# Altium integrated library WE-TPC SMD Shielded Tiny Power Inductor.IntLib: 253 symbols (part 2 of 3)
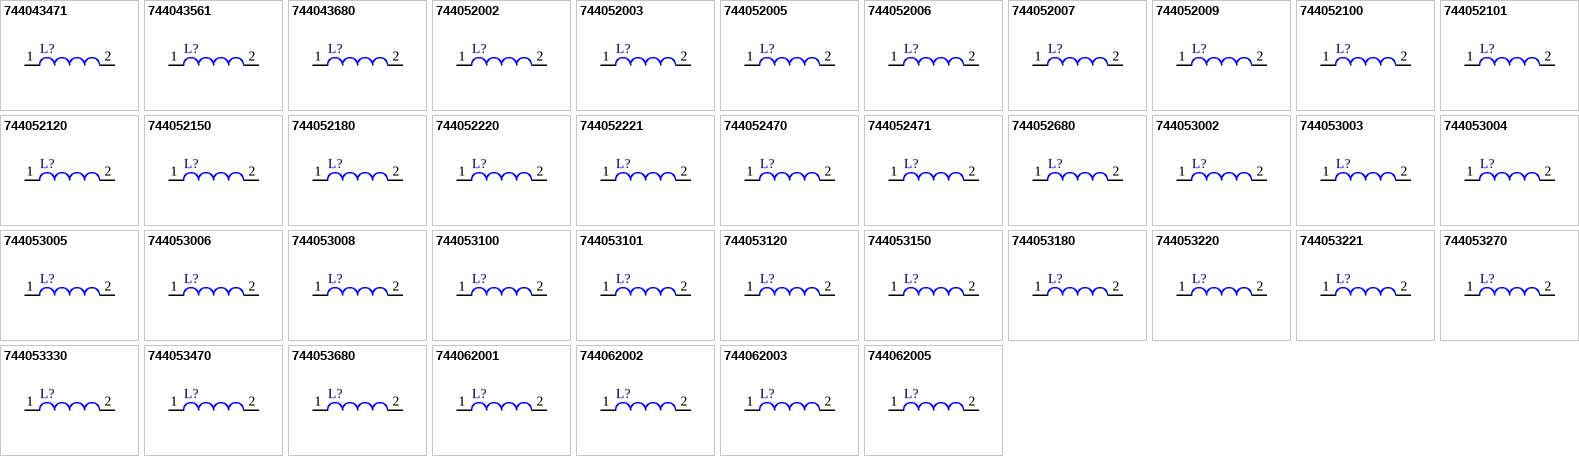
[diagram p8: symbols 744043471 to 744062005]

## 744053002
designator L?
SMD Shielded Tiny Power Inductor WE-TPC, L = 2.60 µH; PartNumber: 744053002; Inductance: 2.60 µH; DatasheetVersion: ver 6, Aug-2010; PackageReference: WE-TPC-5828-LH; PackageDescription: SMD Inductor, 2-Leads, Body 5.8 x 5.8 mm; ComponentLink1Description: Manufacturer URL; ComponentLink1URL: http://www.we-online.com; ComponentLink2Description: Datasheet; ComponentLink2URL: http://www.we-online.de/katalog/media/pdf/744053002.pdf
footprint WE-TPC-5828-LH (SMD Inductor, 2-Leads, Body 5.8x5.8x3.0 mm)
pins: 1, 2

## 744053003
designator L?
SMD Shielded Tiny Power Inductor WE-TPC, L = 3.00 µH; PartNumber: 744053003; Inductance: 3.00 µH; DatasheetVersion: ver 6, Aug-2010; PackageReference: WE-TPC-5828-LH; PackageDescription: SMD Inductor, 2-Leads, Body 5.8 x 5.8 mm; ComponentLink1Description: Manufacturer URL; ComponentLink1URL: http://www.we-online.com; ComponentLink2Description: Datasheet; ComponentLink2URL: http://www.we-online.de/katalog/media/pdf/744053003.pdf
footprint WE-TPC-5828-LH (SMD Inductor, 2-Leads, Body 5.8x5.8x3.0 mm)
pins: 1, 2

## 744053004
designator L?
SMD Shielded Tiny Power Inductor WE-TPC, L = 4.00 µH; PartNumber: 744053004; Inductance: 4.00 µH; DatasheetVersion: ver 6, Aug-2010; PackageReference: WE-TPC-5828-LH; PackageDescription: SMD Inductor, 2-Leads, Body 5.8 x 5.8 mm; ComponentLink1Description: Manufacturer URL; ComponentLink1URL: http://www.we-online.com; ComponentLink2Description: Datasheet; ComponentLink2URL: http://www.we-online.de/katalog/media/pdf/744053004.pdf
footprint WE-TPC-5828-LH (SMD Inductor, 2-Leads, Body 5.8x5.8x3.0 mm)
pins: 1, 2

## 744053005
designator L?
SMD Shielded Tiny Power Inductor WE-TPC, L = 5.30 µH; PartNumber: 744053005; Inductance: 5.30 µH; DatasheetVersion: ver 6, Aug-2010; PackageReference: WE-TPC-5828-LH; PackageDescription: SMD Inductor, 2-Leads, Body 5.8 x 5.8 mm; ComponentLink1Description: Manufacturer URL; ComponentLink1URL: http://www.we-online.com; ComponentLink2Description: Datasheet; ComponentLink2URL: http://www.we-online.de/katalog/media/pdf/744053005.pdf
footprint WE-TPC-5828-LH (SMD Inductor, 2-Leads, Body 5.8x5.8x3.0 mm)
pins: 1, 2

## 744053006
designator L?
SMD Shielded Tiny Power Inductor WE-TPC, L = 6.20 µH; PartNumber: 744053006; Inductance: 6.20 µH; DatasheetVersion: ver 6, Aug-2010; PackageReference: WE-TPC-5828-LH; PackageDescription: SMD Inductor, 2-Leads, Body 5.8 x 5.8 mm; ComponentLink1Description: Manufacturer URL; ComponentLink1URL: http://www.we-online.com; ComponentLink2Description: Datasheet; ComponentLink2URL: http://www.we-online.de/katalog/media/pdf/744053006.pdf
footprint WE-TPC-5828-LH (SMD Inductor, 2-Leads, Body 5.8x5.8x3.0 mm)
pins: 1, 2

## 744053008
designator L?
SMD Shielded Tiny Power Inductor WE-TPC, L = 8.20 µH; PartNumber: 744053008; Inductance: 8.20 µH; DatasheetVersion: ver 6, Aug-2010; PackageReference: WE-TPC-5828-LH; PackageDescription: SMD Inductor, 2-Leads, Body 5.8 x 5.8 mm; ComponentLink1Description: Manufacturer URL; ComponentLink1URL: http://www.we-online.com; ComponentLink2Description: Datasheet; ComponentLink2URL: http://www.we-online.de/katalog/media/pdf/744053008.pdf
footprint WE-TPC-5828-LH (SMD Inductor, 2-Leads, Body 5.8x5.8x3.0 mm)
pins: 1, 2

## 744053100
designator L?
SMD Shielded Tiny Power Inductor WE-TPC, L = 10.0 µH; PartNumber: 744053100; Inductance: 10.0 µH; DatasheetVersion: ver 6, Aug-2010; PackageReference: WE-TPC-5828-LH; PackageDescription: SMD Inductor, 2-Leads, Body 5.8 x 5.8 mm; ComponentLink1Description: Manufacturer URL; ComponentLink1URL: http://www.we-online.com; ComponentLink2Description: Datasheet; ComponentLink2URL: http://www.we-online.de/katalog/media/pdf/744053100.pdf
footprint WE-TPC-5828-LH (SMD Inductor, 2-Leads, Body 5.8x5.8x3.0 mm)
pins: 1, 2

## 744053101
designator L?
SMD Shielded Tiny Power Inductor WE-TPC, L = 100 µH; PartNumber: 744053101; Inductance: 100 µH; DatasheetVersion: ver 6, Aug-2010; PackageReference: WE-TPC-5828-LH; PackageDescription: SMD Inductor, 2-Leads, Body 5.8 x 5.8 mm; ComponentLink1Description: Manufacturer URL; ComponentLink1URL: http://www.we-online.com; ComponentLink2Description: Datasheet; ComponentLink2URL: http://www.we-online.de/katalog/media/pdf/744053101.pdf
footprint WE-TPC-5828-LH (SMD Inductor, 2-Leads, Body 5.8x5.8x3.0 mm)
pins: 1, 2

## 744053120
designator L?
SMD Shielded Tiny Power Inductor WE-TPC, L = 12.0 µH; PartNumber: 744053120; Inductance: 12.0 µH; DatasheetVersion: ver 6, Aug-2010; PackageReference: WE-TPC-5828-LH; PackageDescription: SMD Inductor, 2-Leads, Body 5.8 x 5.8 mm; ComponentLink1Description: Manufacturer URL; ComponentLink1URL: http://www.we-online.com; ComponentLink2Description: Datasheet; ComponentLink2URL: http://www.we-online.de/katalog/media/pdf/744053120.pdf
footprint WE-TPC-5828-LH (SMD Inductor, 2-Leads, Body 5.8x5.8x3.0 mm)
pins: 1, 2

## 744053150
designator L?
SMD Shielded Tiny Power Inductor WE-TPC, L = 15.0 µH; PartNumber: 744053150; Inductance: 12.0 µH; DatasheetVersion: ver 6, Aug-2010; PackageReference: WE-TPC-5828-LH; PackageDescription: SMD Inductor, 2-Leads, Body 5.8 x 5.8 mm; ComponentLink1Description: Manufacturer URL; ComponentLink1URL: http://www.we-online.com; ComponentLink2Description: Datasheet; ComponentLink2URL: http://www.we-online.de/katalog/media/pdf/744053150.pdf
footprint WE-TPC-5828-LH (SMD Inductor, 2-Leads, Body 5.8x5.8x3.0 mm)
pins: 1, 2

## 744053180
designator L?
SMD Shielded Tiny Power Inductor WE-TPC, L = 18.0 µH; PartNumber: 744053180; Inductance: 18.0 µH; DatasheetVersion: ver 6, Aug-2010; PackageReference: WE-TPC-5828-LH; PackageDescription: SMD Inductor, 2-Leads, Body 5.8 x 5.8 mm; ComponentLink1Description: Manufacturer URL; ComponentLink1URL: http://www.we-online.com; ComponentLink2Description: Datasheet; ComponentLink2URL: http://www.we-online.de/katalog/media/pdf/744053180.pdf
footprint WE-TPC-5828-LH (SMD Inductor, 2-Leads, Body 5.8x5.8x3.0 mm)
pins: 1, 2

## 744053220
designator L?
SMD Shielded Tiny Power Inductor WE-TPC, L = 22.0 µH; PartNumber: 744053220; Inductance: 22.0 µH; DatasheetVersion: ver 6, Aug-2010; PackageReference: WE-TPC-5828-LH; PackageDescription: SMD Inductor, 2-Leads, Body 5.8 x 5.8 mm; ComponentLink1Description: Manufacturer URL; ComponentLink1URL: http://www.we-online.com; ComponentLink2Description: Datasheet; ComponentLink2URL: http://www.we-online.de/katalog/media/pdf/744053220.pdf
footprint WE-TPC-5828-LH (SMD Inductor, 2-Leads, Body 5.8x5.8x3.0 mm)
pins: 1, 2

## 744053221
designator L?
SMD Shielded Tiny Power Inductor WE-TPC, L = 220 µH; PartNumber: 744053221; Inductance: 220 µH; DatasheetVersion: ver 8, Jan-2010; PackageReference: WE-TPC-5828-LH; PackageDescription: SMD Inductor, 2-Leads, Body 5.8 x 5.8 mm; ComponentLink1Description: Manufacturer URL; ComponentLink1URL: http://www.we-online.com; ComponentLink2Description: Datasheet; ComponentLink2URL: http://www.we-online.de/katalog/media/pdf/744053221.pdf
footprint WE-TPC-5828-LH (SMD Inductor, 2-Leads, Body 5.8x5.8x3.0 mm)
pins: 1, 2

## 744053270
designator L?
SMD Shielded Tiny Power Inductor WE-TPC, L = 27.0 µH; PartNumber: 744053270; Inductance: 27.0 µH; DatasheetVersion: ver 6, Aug-2010; PackageReference: WE-TPC-5828-LH; PackageDescription: SMD Inductor, 2-Leads, Body 5.8 x 5.8 mm; ComponentLink1Description: Manufacturer URL; ComponentLink1URL: http://www.we-online.com; ComponentLink2Description: Datasheet; ComponentLink2URL: http://www.we-online.de/katalog/media/pdf/744053270.pdf
footprint WE-TPC-5828-LH (SMD Inductor, 2-Leads, Body 5.8x5.8x3.0 mm)
pins: 1, 2

## 744053330
designator L?
SMD Shielded Tiny Power Inductor WE-TPC, L = 33.0 µH; PartNumber: 744053330; Inductance: 33.0 µH; DatasheetVersion: ver 6, Aug-2010; PackageReference: WE-TPC-5828-LH; PackageDescription: SMD Inductor, 2-Leads, Body 5.8 x 5.8 mm; ComponentLink1Description: Manufacturer URL; ComponentLink1URL: http://www.we-online.com; ComponentLink2Description: Datasheet; ComponentLink2URL: http://www.we-online.de/katalog/media/pdf/744053330.pdf
footprint WE-TPC-5828-LH (SMD Inductor, 2-Leads, Body 5.8x5.8x3.0 mm)
pins: 1, 2

## 744053470
designator L?
SMD Shielded Tiny Power Inductor WE-TPC, L = 47.0 µH; PartNumber: 744053470; Inductance: 47.0 µH; DatasheetVersion: ver 6, Aug-2010; PackageReference: WE-TPC-5828-LH; PackageDescription: SMD Inductor, 2-Leads, Body 5.8 x 5.8 mm; ComponentLink1Description: Manufacturer URL; ComponentLink1URL: http://www.we-online.com; ComponentLink2Description: Datasheet; ComponentLink2URL: http://www.we-online.de/katalog/media/pdf/744053470.pdf
footprint WE-TPC-5828-LH (SMD Inductor, 2-Leads, Body 5.8x5.8x3.0 mm)
pins: 1, 2

## 744053680
designator L?
SMD Shielded Tiny Power Inductor WE-TPC, L = 68.0 µH; PartNumber: 744053680; Inductance: 68.0 µH; DatasheetVersion: ver 6, Aug-2010; PackageReference: WE-TPC-5828-LH; PackageDescription: SMD Inductor, 2-Leads, Body 5.8 x 5.8 mm; ComponentLink1Description: Manufacturer URL; ComponentLink1URL: http://www.we-online.com; ComponentLink2Description: Datasheet; ComponentLink2URL: http://www.we-online.de/katalog/media/pdf/744053680.pdf
footprint WE-TPC-5828-LH (SMD Inductor, 2-Leads, Body 5.8x5.8x3.0 mm)
pins: 1, 2

## 744062001
designator L?
SMD Shielded Tiny Power Inductor WE-TPC, L = 1.00 µH; PartNumber: 744062001; Inductance: 1.00 µH; DatasheetVersion: ver 5, Jan-2009; PackageReference: WE-TPC-6823-X; PackageDescription: SMD Inductor, 2-Leads, Body 6.8 x 6.8 mm; ComponentLink1Description: Manufacturer URL; ComponentLink1URL: http://www.we-online.com; ComponentLink2Description: Datasheet; ComponentLink2URL: http://www.we-online.de/katalog/media/pdf/744062001.pdf
footprint WE-TPC-6823-X (SMD Inductor, 2-Leads, Body 6.8x6.8x2.5 mm)
pins: 1, 2

## 744062002
designator L?
SMD Shielded Tiny Power Inductor WE-TPC, L = 2.20 µH; PartNumber: 744062002; Inductance: 2.20 µH; DatasheetVersion: ver 5, Jan-2009; PackageReference: WE-TPC-6823-X; PackageDescription: SMD Inductor, 2-Leads, Body 6.8 x 6.8 mm; ComponentLink1Description: Manufacturer URL; ComponentLink1URL: http://www.we-online.com; ComponentLink2Description: Datasheet; ComponentLink2URL: http://www.we-online.de/katalog/media/pdf/744062002.pdf
footprint WE-TPC-6823-X (SMD Inductor, 2-Leads, Body 6.8x6.8x2.5 mm)
pins: 1, 2

## 744062003
designator L?
SMD Shielded Tiny Power Inductor WE-TPC, L = 3.30 µH; PartNumber: 744062003; Inductance: 3.30 µH; DatasheetVersion: ver 5, Jan-2009; PackageReference: WE-TPC-6823-X; PackageDescription: SMD Inductor, 2-Leads, Body 6.8 x 6.8 mm; ComponentLink1Description: Manufacturer URL; ComponentLink1URL: http://www.we-online.com; ComponentLink2Description: Datasheet; ComponentLink2URL: http://www.we-online.de/katalog/media/pdf/744062003.pdf
footprint WE-TPC-6823-X (SMD Inductor, 2-Leads, Body 6.8x6.8x2.5 mm)
pins: 1, 2

## 744062005
designator L?
SMD Shielded Tiny Power Inductor WE-TPC, L = 5.00 µH; PartNumber: 744062005; Inductance: 5.00 µH; DatasheetVersion: ver 5, Jan-2009; PackageReference: WE-TPC-6823-X; PackageDescription: SMD Inductor, 2-Leads, Body 6.8 x 6.8 mm; ComponentLink1Description: Manufacturer URL; ComponentLink1URL: http://www.we-online.com; ComponentLink2Description: Datasheet; ComponentLink2URL: http://www.we-online.de/katalog/media/pdf/744062005.pdf
footprint WE-TPC-6823-X (SMD Inductor, 2-Leads, Body 6.8x6.8x2.5 mm)
pins: 1, 2

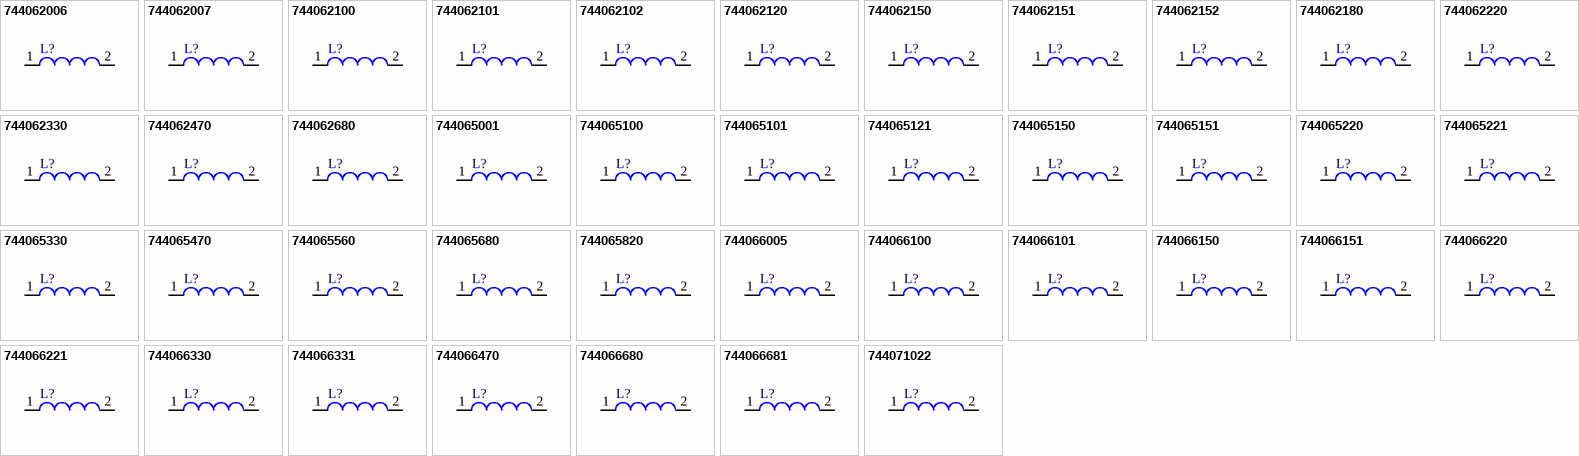
[diagram p3: symbols 744062006 to 744071022]

## 744062006
designator L?
SMD Shielded Tiny Power Inductor WE-TPC, L = 6.20 µH; PartNumber: 744062006; Inductance: 6.20 µH; DatasheetVersion: ver 5, Jan-2009; PackageReference: WE-TPC-6823-X; PackageDescription: SMD Inductor, 2-Leads, Body 6.8 x 6.8 mm; ComponentLink1Description: Manufacturer URL; ComponentLink1URL: http://www.we-online.com; ComponentLink2Description: Datasheet; ComponentLink2URL: http://www.we-online.de/katalog/media/pdf/744062006.pdf
footprint WE-TPC-6823-X (SMD Inductor, 2-Leads, Body 6.8x6.8x2.5 mm)
pins: 1, 2

## 744062007
designator L?
SMD Shielded Tiny Power Inductor WE-TPC, L = 7.50 µH; PartNumber: 744062007; Inductance: 7.50 µH; DatasheetVersion: ver 5, Jan-2009; PackageReference: WE-TPC-6823-X; PackageDescription: SMD Inductor, 2-Leads, Body 6.8 x 6.8 mm; ComponentLink1Description: Manufacturer URL; ComponentLink1URL: http://www.we-online.com; ComponentLink2Description: Datasheet; ComponentLink2URL: http://www.we-online.de/katalog/media/pdf/744062007.pdf
footprint WE-TPC-6823-X (SMD Inductor, 2-Leads, Body 6.8x6.8x2.5 mm)
pins: 1, 2

## 744062100
designator L?
SMD Shielded Tiny Power Inductor WE-TPC, L = 10.0 µH; PartNumber: 744062100; Inductance: 10.0 µH; DatasheetVersion: ver 5, Jan-2009; PackageReference: WE-TPC-6823-X; PackageDescription: SMD Inductor, 2-Leads, Body 6.8 x 6.8 mm; ComponentLink1Description: Manufacturer URL; ComponentLink1URL: http://www.we-online.com; ComponentLink2Description: Datasheet; ComponentLink2URL: http://www.we-online.de/katalog/media/pdf/744062100.pdf
footprint WE-TPC-6823-X (SMD Inductor, 2-Leads, Body 6.8x6.8x2.5 mm)
pins: 1, 2

## 744062101
designator L?
SMD Shielded Tiny Power Inductor WE-TPC, L = 100 µH; PartNumber: 744062101; Inductance: 100 µH; DatasheetVersion: ver 4, Apr-2008; PackageReference: WE-TPC-6823-X; PackageDescription: SMD Inductor, 2-Leads, Body 6.8 x 6.8 mm; ComponentLink1Description: Manufacturer URL; ComponentLink1URL: http://www.we-online.com; ComponentLink2Description: Datasheet; ComponentLink2URL: http://www.we-online.de/katalog/media/pdf/744062101.pdf
footprint WE-TPC-6823-X (SMD Inductor, 2-Leads, Body 6.8x6.8x2.5 mm)
pins: 1, 2

## 744062102
designator L?
SMD Shielded Tiny Power Inductor WE-TPC, L = 1000 µH; PartNumber: 744062102; Inductance: 1000 µH; DatasheetVersion: ver 4, Apr-2008; PackageReference: WE-TPC-6823-X; PackageDescription: SMD Inductor, 2-Leads, Body 6.8 x 6.8 mm; ComponentLink1Description: Manufacturer URL; ComponentLink1URL: http://www.we-online.com; ComponentLink2Description: Datasheet; ComponentLink2URL: http://www.we-online.de/katalog/media/pdf/744062102.pdf
footprint WE-TPC-6823-X (SMD Inductor, 2-Leads, Body 6.8x6.8x2.5 mm)
pins: 1, 2

## 744062120
designator L?
SMD Shielded Tiny Power Inductor WE-TPC, L = 12.0 µH; PartNumber: 744062120; Inductance: 12.0 µH; DatasheetVersion: ver 5, Jan-2009; PackageReference: WE-TPC-6823-X; PackageDescription: SMD Inductor, 2-Leads, Body 6.8 x 6.8 mm; ComponentLink1Description: Manufacturer URL; ComponentLink1URL: http://www.we-online.com; ComponentLink2Description: Datasheet; ComponentLink2URL: http://www.we-online.de/katalog/media/pdf/744062120.pdf
footprint WE-TPC-6823-X (SMD Inductor, 2-Leads, Body 6.8x6.8x2.5 mm)
pins: 1, 2

## 744062150
designator L?
SMD Shielded Tiny Power Inductor WE-TPC, L = 15.0 µH; PartNumber: 744062150; Inductance: 15.0 µH; DatasheetVersion: ver 5, Jan-2009; PackageReference: WE-TPC-6823-X; PackageDescription: SMD Inductor, 2-Leads, Body 6.8 x 6.8 mm; ComponentLink1Description: Manufacturer URL; ComponentLink1URL: http://www.we-online.com; ComponentLink2Description: Datasheet; ComponentLink2URL: http://www.we-online.de/katalog/media/pdf/744062150.pdf
footprint WE-TPC-6823-X (SMD Inductor, 2-Leads, Body 6.8x6.8x2.5 mm)
pins: 1, 2

## 744062151
designator L?
SMD Shielded Tiny Power Inductor WE-TPC, L = 150 µH; PartNumber: 744062151; Inductance: 150 µH; DatasheetVersion: ver 5, Jan-2009; PackageReference: WE-TPC-6823-X; PackageDescription: SMD Inductor, 2-Leads, Body 6.8 x 6.8 mm; ComponentLink1Description: Manufacturer URL; ComponentLink1URL: http://www.we-online.com; ComponentLink2Description: Datasheet; ComponentLink2URL: http://www.we-online.de/katalog/media/pdf/744062151.pdf
footprint WE-TPC-6823-X (SMD Inductor, 2-Leads, Body 6.8x6.8x2.5 mm)
pins: 1, 2

## 744062152
designator L?
SMD Shielded Tiny Power Inductor WE-TPC, L = 1500 µH; PartNumber: 744062152; Inductance: 1500 µH; DatasheetVersion: ver 5, Jan-2009; PackageReference: WE-TPC-6823-X; PackageDescription: SMD Inductor, 2-Leads, Body 6.8 x 6.8 mm; ComponentLink1Description: Manufacturer URL; ComponentLink1URL: http://www.we-online.com; ComponentLink2Description: Datasheet; ComponentLink2URL: http://www.we-online.de/katalog/media/pdf/744062152.pdf
footprint WE-TPC-6823-X (SMD Inductor, 2-Leads, Body 6.8x6.8x2.5 mm)
pins: 1, 2

## 744062180
designator L?
SMD Shielded Tiny Power Inductor WE-TPC, L = 18.0 µH; PartNumber: 744062180; Inductance: 18.0 µH; DatasheetVersion: ver 5, Jan-2009; PackageReference: WE-TPC-6823-X; PackageDescription: SMD Inductor, 2-Leads, Body 6.8 x 6.8 mm; ComponentLink1Description: Manufacturer URL; ComponentLink1URL: http://www.we-online.com; ComponentLink2Description: Datasheet; ComponentLink2URL: http://www.we-online.de/katalog/media/pdf/744062180.pdf
footprint WE-TPC-6823-X (SMD Inductor, 2-Leads, Body 6.8x6.8x2.5 mm)
pins: 1, 2

## 744062220
designator L?
SMD Shielded Tiny Power Inductor WE-TPC, L = 22.0 µH; PartNumber: 744062220; Inductance: 22.0 µH; DatasheetVersion: ver 5, Jan-2009; PackageReference: WE-TPC-6823-X; PackageDescription: SMD Inductor, 2-Leads, Body 6.8 x 6.8 mm; ComponentLink1Description: Manufacturer URL; ComponentLink1URL: http://www.we-online.com; ComponentLink2Description: Datasheet; ComponentLink2URL: http://www.we-online.de/katalog/media/pdf/744062220.pdf
footprint WE-TPC-6823-X (SMD Inductor, 2-Leads, Body 6.8x6.8x2.5 mm)
pins: 1, 2

## 744062330
designator L?
SMD Shielded Tiny Power Inductor WE-TPC, L = 33.0 µH; PartNumber: 744062330; Inductance: 33.0 µH; DatasheetVersion: ver 5, Jan-2009; PackageReference: WE-TPC-6823-X; PackageDescription: SMD Inductor, 2-Leads, Body 6.8 x 6.8 mm; ComponentLink1Description: Manufacturer URL; ComponentLink1URL: http://www.we-online.com; ComponentLink2Description: Datasheet; ComponentLink2URL: http://www.we-online.de/katalog/media/pdf/744062330.pdf
footprint WE-TPC-6823-X (SMD Inductor, 2-Leads, Body 6.8x6.8x2.5 mm)
pins: 1, 2

## 744062470
designator L?
SMD Shielded Tiny Power Inductor WE-TPC, L = 47.0 µH; PartNumber: 744062470; Inductance: 47.0 µH; DatasheetVersion: ver 5, Jan-2009; PackageReference: WE-TPC-6823-X; PackageDescription: SMD Inductor, 2-Leads, Body 6.8 x 6.8 mm; ComponentLink1Description: Manufacturer URL; ComponentLink1URL: http://www.we-online.com; ComponentLink2Description: Datasheet; ComponentLink2URL: http://www.we-online.de/katalog/media/pdf/744062470.pdf
footprint WE-TPC-6823-X (SMD Inductor, 2-Leads, Body 6.8x6.8x2.5 mm)
pins: 1, 2

## 744062680
designator L?
SMD Shielded Tiny Power Inductor WE-TPC, L = 68.0 µH; PartNumber: 744062680; Inductance: 68.0 µH; DatasheetVersion: ver 5, Jan-2009; PackageReference: WE-TPC-6823-X; PackageDescription: SMD Inductor, 2-Leads, Body 6.8 x 6.8 mm; ComponentLink1Description: Manufacturer URL; ComponentLink1URL: http://www.we-online.com; ComponentLink2Description: Datasheet; ComponentLink2URL: http://www.we-online.de/katalog/media/pdf/744062680.pdf
footprint WE-TPC-6823-X (SMD Inductor, 2-Leads, Body 6.8x6.8x2.5 mm)
pins: 1, 2

## 744065001
designator L?
SMD Shielded Tiny Power Inductor WE-TPC, L = 1.00 µH; PartNumber: 744065001; Inductance: 1.00 µH; DatasheetVersion: ver 3, Nov-2008; PackageReference: WE-TPC-1028-XL; PackageDescription: SMD Inductor, 2-Leads, Body 10.0 x 10.0 mm; ComponentLink1Description: Manufacturer URL; ComponentLink1URL: http://www.we-online.com; ComponentLink2Description: Datasheet; ComponentLink2URL: http://www.we-online.de/katalog/media/pdf/744065001.pdf
footprint WE-TPC-1028-XL (SMD Inductor, 2-Leads, Body 10.0x10.0x3.1 mm)
pins: 1, 2

## 744065100
designator L?
SMD Shielded Tiny Power Inductor WE-TPC, L = 10.0 µH; PartNumber: 744065100; Inductance: 10.0 µH; DatasheetVersion: ver 3, Nov-2008; PackageReference: WE-TPC-1028-XL; PackageDescription: SMD Inductor, 2-Leads, Body 10.0 x 10.0 mm; ComponentLink1Description: Manufacturer URL; ComponentLink1URL: http://www.we-online.com; ComponentLink2Description: Datasheet; ComponentLink2URL: http://www.we-online.de/katalog/media/pdf/744065100.pdf
footprint WE-TPC-1028-XL (SMD Inductor, 2-Leads, Body 10.0x10.0x3.1 mm)
pins: 1, 2

## 744065101
designator L?
SMD Shielded Tiny Power Inductor WE-TPC, L = 100 µH; PartNumber: 744065101; Inductance: 100 µH; DatasheetVersion: ver 3, Nov-2008; PackageReference: WE-TPC-1028-XL; PackageDescription: SMD Inductor, 2-Leads, Body 10.0 x 10.0 mm; ComponentLink1Description: Manufacturer URL; ComponentLink1URL: http://www.we-online.com; ComponentLink2Description: Datasheet; ComponentLink2URL: http://www.we-online.de/katalog/media/pdf/744065101.pdf
footprint WE-TPC-1028-XL (SMD Inductor, 2-Leads, Body 10.0x10.0x3.1 mm)
pins: 1, 2

## 744065121
designator L?
SMD Shielded Tiny Power Inductor WE-TPC, L = 120 µH; PartNumber: 744065121; Inductance: 120 µH; DatasheetVersion: ver 3, Nov-2008; PackageReference: WE-TPC-1028-XL; PackageDescription: SMD Inductor, 2-Leads, Body 10.0 x 10.0 mm; ComponentLink1Description: Manufacturer URL; ComponentLink1URL: http://www.we-online.com; ComponentLink2Description: Datasheet; ComponentLink2URL: http://www.we-online.de/katalog/media/pdf/744065121.pdf
footprint WE-TPC-1028-XL (SMD Inductor, 2-Leads, Body 10.0x10.0x3.1 mm)
pins: 1, 2

## 744065150
designator L?
SMD Shielded Tiny Power Inductor WE-TPC, L = 15.0 µH; PartNumber: 744065150; Inductance: 15.0 µH; DatasheetVersion: ver 3, Nov-2008; PackageReference: WE-TPC-1028-XL; PackageDescription: SMD Inductor, 2-Leads, Body 10.0 x 10.0 mm; ComponentLink1Description: Manufacturer URL; ComponentLink1URL: http://www.we-online.com; ComponentLink2Description: Datasheet; ComponentLink2URL: http://www.we-online.de/katalog/media/pdf/744065150.pdf
footprint WE-TPC-1028-XL (SMD Inductor, 2-Leads, Body 10.0x10.0x3.1 mm)
pins: 1, 2

## 744065151
designator L?
SMD Shielded Tiny Power Inductor WE-TPC, L = 150 µH; PartNumber: 744065151; Inductance: 150 µH; DatasheetVersion: ver 3, Nov-2008; PackageReference: WE-TPC-1028-XL; PackageDescription: SMD Inductor, 2-Leads, Body 10.0 x 10.0 mm; ComponentLink1Description: Manufacturer URL; ComponentLink1URL: http://www.we-online.com; ComponentLink2Description: Datasheet; ComponentLink2URL: http://www.we-online.de/katalog/media/pdf/744065151.pdf
footprint WE-TPC-1028-XL (SMD Inductor, 2-Leads, Body 10.0x10.0x3.1 mm)
pins: 1, 2

## 744065220
designator L?
SMD Shielded Tiny Power Inductor WE-TPC, L = 22.0 µH; PartNumber: 744065220; Inductance: 22.0 µH; DatasheetVersion: ver 3, Nov-2008; PackageReference: WE-TPC-1028-XL; PackageDescription: SMD Inductor, 2-Leads, Body 10.0 x 10.0 mm; ComponentLink1Description: Manufacturer URL; ComponentLink1URL: http://www.we-online.com; ComponentLink2Description: Datasheet; ComponentLink2URL: http://www.we-online.de/katalog/media/pdf/744065220.pdf
footprint WE-TPC-1028-XL (SMD Inductor, 2-Leads, Body 10.0x10.0x3.1 mm)
pins: 1, 2

## 744065221
designator L?
SMD Shielded Tiny Power Inductor WE-TPC, L = 220 µH; PartNumber: 744065221; Inductance: 220 µH; DatasheetVersion: ver 3, Nov-2008; PackageReference: WE-TPC-1028-XL; PackageDescription: SMD Inductor, 2-Leads, Body 10.0 x 10.0 mm; ComponentLink1Description: Manufacturer URL; ComponentLink1URL: http://www.we-online.com; ComponentLink2Description: Datasheet; ComponentLink2URL: http://www.we-online.de/katalog/media/pdf/744065221.pdf
footprint WE-TPC-1028-XL (SMD Inductor, 2-Leads, Body 10.0x10.0x3.1 mm)
pins: 1, 2

## 744065330
designator L?
SMD Shielded Tiny Power Inductor WE-TPC, L = 33.0 µH; PartNumber: 744065330; Inductance: 33.0 µH; DatasheetVersion: ver 3, Nov-2008; PackageReference: WE-TPC-1028-XL; PackageDescription: SMD Inductor, 2-Leads, Body 10.0 x 10.0 mm; ComponentLink1Description: Manufacturer URL; ComponentLink1URL: http://www.we-online.com; ComponentLink2Description: Datasheet; ComponentLink2URL: http://www.we-online.de/katalog/media/pdf/744065330.pdf
footprint WE-TPC-1028-XL (SMD Inductor, 2-Leads, Body 10.0x10.0x3.1 mm)
pins: 1, 2

## 744065470
designator L?
SMD Shielded Tiny Power Inductor WE-TPC, L = 47.0 µH; PartNumber: 744065470; Inductance: 47.0 µH; DatasheetVersion: ver 3, Nov-2008; PackageReference: WE-TPC-1028-XL; PackageDescription: SMD Inductor, 2-Leads, Body 10.0 x 10.0 mm; ComponentLink1Description: Manufacturer URL; ComponentLink1URL: http://www.we-online.com; ComponentLink2Description: Datasheet; ComponentLink2URL: http://www.we-online.de/katalog/media/pdf/744065470.pdf
footprint WE-TPC-1028-XL (SMD Inductor, 2-Leads, Body 10.0x10.0x3.1 mm)
pins: 1, 2

## 744065560
designator L?
SMD Shielded Tiny Power Inductor WE-TPC, L = 56.0 µH; PartNumber: 744065560; Inductance: 56.0 µH; DatasheetVersion: ver 3, Nov-2008; PackageReference: WE-TPC-1028-XL; PackageDescription: SMD Inductor, 2-Leads, Body 10.0 x 10.0 mm; ComponentLink1Description: Manufacturer URL; ComponentLink1URL: http://www.we-online.com; ComponentLink2Description: Datasheet; ComponentLink2URL: http://www.we-online.de/katalog/media/pdf/744065560.pdf
footprint WE-TPC-1028-XL (SMD Inductor, 2-Leads, Body 10.0x10.0x3.1 mm)
pins: 1, 2

## 744065680
designator L?
SMD Shielded Tiny Power Inductor WE-TPC, L = 68.0 µH; PartNumber: 744065680; Inductance: 68.0 µH; DatasheetVersion: ver 3, Nov-2008; PackageReference: WE-TPC-1028-XL; PackageDescription: SMD Inductor, 2-Leads, Body 10.0 x 10.0 mm; ComponentLink1Description: Manufacturer URL; ComponentLink1URL: http://www.we-online.com; ComponentLink2Description: Datasheet; ComponentLink2URL: http://www.we-online.de/katalog/media/pdf/744065680.pdf
footprint WE-TPC-1028-XL (SMD Inductor, 2-Leads, Body 10.0x10.0x3.1 mm)
pins: 1, 2

## 744065820
designator L?
SMD Shielded Tiny Power Inductor WE-TPC, L = 82.0 µH; PartNumber: 744065820; Inductance: 82.0 µH; DatasheetVersion: ver 3, Nov-2008; PackageReference: WE-TPC-1028-XL; PackageDescription: SMD Inductor, 2-Leads, Body 10.0 x 10.0 mm; ComponentLink1Description: Manufacturer URL; ComponentLink1URL: http://www.we-online.com; ComponentLink2Description: Datasheet; ComponentLink2URL: http://www.we-online.de/katalog/media/pdf/744065820.pdf
footprint WE-TPC-1028-XL (SMD Inductor, 2-Leads, Body 10.0x10.0x3.1 mm)
pins: 1, 2

## 744066005
designator L?
SMD Shielded Tiny Power Inductor WE-TPC, L = 5.00 µH; PartNumber: 744066005; Inductance: 5.00 µH; DatasheetVersion: ver 4, Nov-2008; PackageReference: WE-TPC-1038-XLH; PackageDescription: SMD Inductor, 2-Leads, Body 10.0 x 10.0 mm; ComponentLink1Description: Manufacturer URL; ComponentLink1URL: http://www.we-online.com; ComponentLink2Description: Datasheet; ComponentLink2URL: http://www.we-online.de/katalog/media/pdf/744066005.pdf
footprint WE-TPC-1038-XLH (SMD Inductor, 2-Leads, Body 10.0x10.0x4.1 mm)
pins: 1, 2

## 744066100
designator L?
SMD Shielded Tiny Power Inductor WE-TPC, L = 10.0 µH; PartNumber: 744066100; Inductance: 10.0 µH; DatasheetVersion: ver 4, Nov-2008; PackageReference: WE-TPC-1038-XLH; PackageDescription: SMD Inductor, 2-Leads, Body 10.0 x 10.0 mm; ComponentLink1Description: Manufacturer URL; ComponentLink1URL: http://www.we-online.com; ComponentLink2Description: Datasheet; ComponentLink2URL: http://www.we-online.de/katalog/media/pdf/744066100.pdf
footprint WE-TPC-1038-XLH (SMD Inductor, 2-Leads, Body 10.0x10.0x4.1 mm)
pins: 1, 2

## 744066101
designator L?
SMD Shielded Tiny Power Inductor WE-TPC, L = 100 µH; PartNumber: 744066101; Inductance: 100 µH; DatasheetVersion: ver 4, Nov-2008; PackageReference: WE-TPC-1038-XLH; PackageDescription: SMD Inductor, 2-Leads, Body 10.0 x 10.0 mm; ComponentLink1Description: Manufacturer URL; ComponentLink1URL: http://www.we-online.com; ComponentLink2Description: Datasheet; ComponentLink2URL: http://www.we-online.de/katalog/media/pdf/744066101.pdf
footprint WE-TPC-1038-XLH (SMD Inductor, 2-Leads, Body 10.0x10.0x4.1 mm)
pins: 1, 2

## 744066150
designator L?
SMD Shielded Tiny Power Inductor WE-TPC, L = 15.0 µH; PartNumber: 744066150; Inductance: 15.0 µH; DatasheetVersion: ver 4, Nov-2008; PackageReference: WE-TPC-1038-XLH; PackageDescription: SMD Inductor, 2-Leads, Body 10.0 x 10.0 mm; ComponentLink1Description: Manufacturer URL; ComponentLink1URL: http://www.we-online.com; ComponentLink2Description: Datasheet; ComponentLink2URL: http://www.we-online.de/katalog/media/pdf/744066150.pdf
footprint WE-TPC-1038-XLH (SMD Inductor, 2-Leads, Body 10.0x10.0x4.1 mm)
pins: 1, 2

## 744066151
designator L?
SMD Shielded Tiny Power Inductor WE-TPC, L = 150 µH; PartNumber: 744066151; Inductance: 150 µH; DatasheetVersion: ver 4, Nov-2008; PackageReference: WE-TPC-1038-XLH; PackageDescription: SMD Inductor, 2-Leads, Body 10.0 x 10.0 mm; ComponentLink1Description: Manufacturer URL; ComponentLink1URL: http://www.we-online.com; ComponentLink2Description: Datasheet; ComponentLink2URL: http://www.we-online.de/katalog/media/pdf/744066151.pdf
footprint WE-TPC-1038-XLH (SMD Inductor, 2-Leads, Body 10.0x10.0x4.1 mm)
pins: 1, 2

## 744066220
designator L?
SMD Shielded Tiny Power Inductor WE-TPC, L = 22.0 µH; PartNumber: 744066220; Inductance: 22.0 µH; DatasheetVersion: ver 4, Nov-2008; PackageReference: WE-TPC-1038-XLH; PackageDescription: SMD Inductor, 2-Leads, Body 10.0 x 10.0 mm; ComponentLink1Description: Manufacturer URL; ComponentLink1URL: http://www.we-online.com; ComponentLink2Description: Datasheet; ComponentLink2URL: http://www.we-online.de/katalog/media/pdf/744066220.pdf
footprint WE-TPC-1038-XLH (SMD Inductor, 2-Leads, Body 10.0x10.0x4.1 mm)
pins: 1, 2

## 744066221
designator L?
SMD Shielded Tiny Power Inductor WE-TPC, L = 220 µH; PartNumber: 744066221; Inductance: 220 µH; DatasheetVersion: ver 4, Nov-2008; PackageReference: WE-TPC-1038-XLH; PackageDescription: SMD Inductor, 2-Leads, Body 10.0 x 10.0 mm; ComponentLink1Description: Manufacturer URL; ComponentLink1URL: http://www.we-online.com; ComponentLink2Description: Datasheet; ComponentLink2URL: http://www.we-online.de/katalog/media/pdf/744066221.pdf
footprint WE-TPC-1038-XLH (SMD Inductor, 2-Leads, Body 10.0x10.0x4.1 mm)
pins: 1, 2

## 744066330
designator L?
SMD Shielded Tiny Power Inductor WE-TPC, L = 33.0 µH; PartNumber: 744066330; Inductance: 33.0 µH; DatasheetVersion: ver 4, Nov-2008; PackageReference: WE-TPC-1038-XLH; PackageDescription: SMD Inductor, 2-Leads, Body 10.0 x 10.0 mm; ComponentLink1Description: Manufacturer URL; ComponentLink1URL: http://www.we-online.com; ComponentLink2Description: Datasheet; ComponentLink2URL: http://www.we-online.de/katalog/media/pdf/744066330.pdf
footprint WE-TPC-1038-XLH (SMD Inductor, 2-Leads, Body 10.0x10.0x4.1 mm)
pins: 1, 2

## 744066331
designator L?
SMD Shielded Tiny Power Inductor WE-TPC, L = 330 µH; PartNumber: 744066331; Inductance: 330 µH; DatasheetVersion: ver 4, Nov-2008; PackageReference: WE-TPC-1038-XLH; PackageDescription: SMD Inductor, 2-Leads, Body 10.0 x 10.0 mm; ComponentLink1Description: Manufacturer URL; ComponentLink1URL: http://www.we-online.com; ComponentLink2Description: Datasheet; ComponentLink2URL: http://www.we-online.de/katalog/media/pdf/744066331.pdf
footprint WE-TPC-1038-XLH (SMD Inductor, 2-Leads, Body 10.0x10.0x4.1 mm)
pins: 1, 2

## 744066470
designator L?
SMD Shielded Tiny Power Inductor WE-TPC, L = 47.0 µH; PartNumber: 744066470; Inductance: 47.0 µH; DatasheetVersion: ver 4, Nov-2008; PackageReference: WE-TPC-1038-XLH; PackageDescription: SMD Inductor, 2-Leads, Body 10.0 x 10.0 mm; ComponentLink1Description: Manufacturer URL; ComponentLink1URL: http://www.we-online.com; ComponentLink2Description: Datasheet; ComponentLink2URL: http://www.we-online.de/katalog/media/pdf/744066470.pdf
footprint WE-TPC-1038-XLH (SMD Inductor, 2-Leads, Body 10.0x10.0x4.1 mm)
pins: 1, 2

## 744066680
designator L?
SMD Shielded Tiny Power Inductor WE-TPC, L = 68.0 µH; PartNumber: 744066680; Inductance: 68.0 µH; DatasheetVersion: ver 4, Nov-2008; PackageReference: WE-TPC-1038-XLH; PackageDescription: SMD Inductor, 2-Leads, Body 10.0 x 10.0 mm; ComponentLink1Description: Manufacturer URL; ComponentLink1URL: http://www.we-online.com; ComponentLink2Description: Datasheet; ComponentLink2URL: http://www.we-online.de/katalog/media/pdf/744066680.pdf
footprint WE-TPC-1038-XLH (SMD Inductor, 2-Leads, Body 10.0x10.0x4.1 mm)
pins: 1, 2

## 744066681
designator L?
SMD Shielded Tiny Power Inductor WE-TPC, L = 680 µH; PartNumber: 744066681; Inductance: 680 µH; DatasheetVersion: ver 4, Nov-2008; PackageReference: WE-TPC-1038-XLH; PackageDescription: SMD Inductor, 2-Leads, Body 10.0 x 10.0 mm; ComponentLink1Description: Manufacturer URL; ComponentLink1URL: http://www.we-online.com; ComponentLink2Description: Datasheet; ComponentLink2URL: http://www.we-online.de/katalog/media/pdf/744066681.pdf
footprint WE-TPC-1038-XLH (SMD Inductor, 2-Leads, Body 10.0x10.0x4.1 mm)
pins: 1, 2

## 744071022
designator L?
SMD Shielded Tiny Power Inductor WE-TPC, L=2.20 µH; PartNumber: 744071022; Inductance: 2.20 µH; PackageReference: WE-TPC 8043; ComponentLink1Description: Manufacturer URL; ComponentLink1URL: http://www.we-online.com; ComponentLink2Description: Datasheet; ComponentLink2URL: http://www.we-online.de/katalog/media/pdf/744071022.pdf
footprint WE-TPC 8043 (SMD Inductor, 2-Leads, Body 8,0x8,0mm)
pins: 1, 2

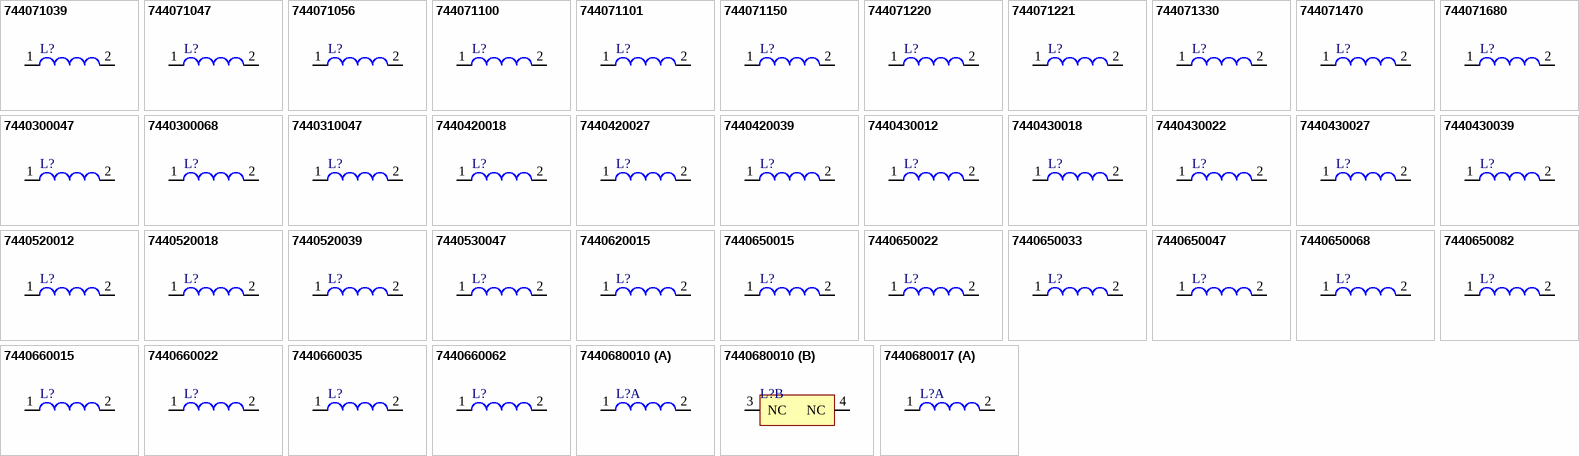
[diagram p4: symbols 744071039 to 7440680017]

## 744071039
designator L?
SMD Shielded Tiny Power Inductor WE-TPC, L=23.90 µH; PartNumber: 744071039; Inductance: 3.90 µH; PackageReference: WE-TPC 8043; ComponentLink1Description: Manufacturer URL; ComponentLink1URL: http://www.we-online.com; ComponentLink2Description: Datasheet; ComponentLink2URL: http://www.we-online.de/katalog/media/pdf/744071039.pdf
footprint WE-TPC 8043 (SMD Inductor, 2-Leads, Body 8,0x8,0mm)
pins: 1, 2

## 744071047
designator L?
SMD Shielded Tiny Power Inductor WE-TPC, L=4.70 µH; PartNumber: 744071047; Inductance: 4.70 µH; PackageReference: WE-TPC 8043; ComponentLink1Description: Manufacturer URL; ComponentLink1URL: http://www.we-online.com; ComponentLink2Description: Datasheet; ComponentLink2URL: http://www.we-online.de/katalog/media/pdf/744071047.pdf
footprint WE-TPC 8043 (SMD Inductor, 2-Leads, Body 8,0x8,0mm)
pins: 1, 2

## 744071056
designator L?
SMD Shielded Tiny Power Inductor WE-TPC, L=5.60 µH; PartNumber: 744071056; Inductance: 5.60 µH; PackageReference: WE-TPC 8043; ComponentLink1Description: Manufacturer URL; ComponentLink1URL: http://www.we-online.com; ComponentLink2Description: Datasheet; ComponentLink2URL: http://www.we-online.de/katalog/media/pdf/744071056.pdf
footprint WE-TPC 8043 (SMD Inductor, 2-Leads, Body 8,0x8,0mm)
pins: 1, 2

## 744071100
designator L?
SMD Shielded Tiny Power Inductor WE-TPC, L=10.0 µH; PartNumber: 744071100; Inductance: 10.0 µH; PackageReference: WE-TPC 8043; ComponentLink1Description: Manufacturer URL; ComponentLink1URL: http://www.we-online.com; ComponentLink2Description: Datasheet; ComponentLink2URL: http://www.we-online.de/katalog/media/pdf/744071100.pdf
footprint WE-TPC 8043 (SMD Inductor, 2-Leads, Body 8,0x8,0mm)
pins: 1, 2

## 744071101
designator L?
SMD Shielded Tiny Power Inductor WE-TPC, L=100 µH; PartNumber: 744071101; Inductance: 100 µH; PackageReference: WE-TPC 8043; ComponentLink1Description: Manufacturer URL; ComponentLink1URL: http://www.we-online.com; ComponentLink2Description: Datasheet; ComponentLink2URL: http://www.we-online.de/katalog/media/pdf/744071101.pdf
footprint WE-TPC 8043 (SMD Inductor, 2-Leads, Body 8,0x8,0mm)
pins: 1, 2

## 744071150
designator L?
SMD Shielded Tiny Power Inductor WE-TPC, L=15.0 µH; PartNumber: 744071150; Inductance: 15.0 µH; PackageReference: WE-TPC 8043; ComponentLink1Description: Manufacturer URL; ComponentLink1URL: http://www.we-online.com; ComponentLink2Description: Datasheet; ComponentLink2URL: http://www.we-online.de/katalog/media/pdf/744071150.pdf
footprint WE-TPC 8043 (SMD Inductor, 2-Leads, Body 8,0x8,0mm)
pins: 1, 2

## 744071220
designator L?
SMD Shielded Tiny Power Inductor WE-TPC, L=22.0 µH; PartNumber: 744071220; Inductance: 22.0 µH; PackageReference: WE-TPC 8043; ComponentLink1Description: Manufacturer URL; ComponentLink1URL: http://www.we-online.com; ComponentLink2Description: Datasheet; ComponentLink2URL: http://www.we-online.de/katalog/media/pdf/744071220.pdf
footprint WE-TPC 8043 (SMD Inductor, 2-Leads, Body 8,0x8,0mm)
pins: 1, 2

## 744071221
designator L?
SMD Shielded Tiny Power Inductor WE-TPC, L=220 µH; PartNumber: 744071221; Inductance: 220 µH; PackageReference: WE-TPC 8043; ComponentLink1Description: Manufacturer URL; ComponentLink1URL: http://www.we-online.com; ComponentLink2Description: Datasheet; ComponentLink2URL: http://www.we-online.de/katalog/media/pdf/744071221.pdf
footprint WE-TPC 8043 (SMD Inductor, 2-Leads, Body 8,0x8,0mm)
pins: 1, 2

## 744071330
designator L?
SMD Shielded Tiny Power Inductor WE-TPC, L=33.0 µH; PartNumber: 744071330; Inductance: 33.0 µH; PackageReference: WE-TPC 8043; ComponentLink1Description: Manufacturer URL; ComponentLink1URL: http://www.we-online.com; ComponentLink2Description: Datasheet; ComponentLink2URL: http://www.we-online.de/katalog/media/pdf/744071330.pdf
footprint WE-TPC 8043 (SMD Inductor, 2-Leads, Body 8,0x8,0mm)
pins: 1, 2

## 744071470
designator L?
SMD Shielded Tiny Power Inductor WE-TPC, L=47.0 µH; PartNumber: 744071470; Inductance: 47.0 µH; PackageReference: WE-TPC 8043; ComponentLink1Description: Manufacturer URL; ComponentLink1URL: http://www.we-online.com; ComponentLink2Description: Datasheet; ComponentLink2URL: http://www.we-online.de/katalog/media/pdf/744071470.pdf
footprint WE-TPC 8043 (SMD Inductor, 2-Leads, Body 8,0x8,0mm)
pins: 1, 2

## 744071680
designator L?
SMD Shielded Tiny Power Inductor WE-TPC, L=68.0 µH; PartNumber: 744071680; Inductance: 68.0 µH; PackageReference: WE-TPC 8043; ComponentLink1Description: Manufacturer URL; ComponentLink1URL: http://www.we-online.com; ComponentLink2Description: Datasheet; ComponentLink2URL: http://www.we-online.de/katalog/media/pdf/744071680.pdf
footprint WE-TPC 8043 (SMD Inductor, 2-Leads, Body 8,0x8,0mm)
pins: 1, 2

## 7440300047
designator L?
SMD Shielded Tiny Power Inductor WE-TPC, L=0.47 µH; PartNumber: 7440300047; Inductance: 0.47 µH; PackageReference: WE-TPC-3510-XS; PackageDescription: SMD Inductor, 2-Leads, Body 3.3 x 3.5 mm; ComponentLink1Description: Manufacturer URL; ComponentLink1URL: http://www.we-online.com; ComponentLink2Description: Datasheet; ComponentLink2URL: http://www.we-online.de/katalog/media/pdf/7440300047.pdf
footprint WE-TPC-3510-XS (SMD Inductor, 2-Leads, Body 3.3x3.5x1.05 mm)
pins: 1, 2

## 7440300068
designator L?
SMD Shielded Tiny Power Inductor WE-TPC, L=0.68 µH; PartNumber: 7440300068; Inductance: 0.68 µH; PackageReference: WE-TPC-3510-XS; PackageDescription: SMD Inductor, 2-Leads, Body 3.3 x 3.5 mm; ComponentLink1Description: Manufacturer URL; ComponentLink1URL: http://www.we-online.com; ComponentLink2Description: Datasheet; ComponentLink2URL: http://www.we-online.de/katalog/media/pdf/7440300068.pdf
footprint WE-TPC-3510-XS (SMD Inductor, 2-Leads, Body 3.3x3.5x1.05 mm)
pins: 1, 2

## 7440310047
designator L?
SMD Shielded Tiny Power Inductor WE-TPC, L=0.47 µH; PartNumber: 7440310047; Inductance: 0.47 µH; PackageReference: WE-TPC-3816-S; PackageDescription: SMD Inductor, 2-Leads, Body 3.8 x 3.8 mm; ComponentLink1Description: Manufacturer URL; ComponentLink1URL: http://www.we-online.com; ComponentLink2Description: Datasheet; ComponentLink2URL: http://www.we-online.de/katalog/media/pdf/7440310047.pdf
footprint WE-TPC-3816-S (SMD Inductor, 2-Leads, Body 3.8x3.8x1.8 mm)
pins: 1, 2

## 7440420018
designator L?
SMD Shielded Tiny Power Inductor WE-TPC, L = 1.80 µH; PartNumber: 7440420018; Inductance: 1.80 µH; DatasheetVersion: ver 6, Aug-2010; PackageReference: WE-TPC-4818-M; PackageDescription: SMD Inductor, 2-Leads, Body 4.8 x 4.8 mm; ComponentLink1Description: Manufacturer URL; ComponentLink1URL: http://www.we-online.com; ComponentLink2Description: Datasheet; ComponentLink2URL: http://www.we-online.de/katalog/media/pdf/7440420018.pdf
footprint WE-TPC-4818-M (SMD Inductor, 2-Leads, Body 4.8x4.8x2.0 mm)
pins: 1, 2

## 7440420027
designator L?
SMD Shielded Tiny Power Inductor WE-TPC, L = 2.70 µH; PartNumber: 7440420027; Inductance: 2.70 µH; DatasheetVersion: ver 6, Aug-2010; PackageReference: WE-TPC-4818-M; PackageDescription: SMD Inductor, 2-Leads, Body 4.8 x 4.8 mm; ComponentLink1Description: Manufacturer URL; ComponentLink1URL: http://www.we-online.com; ComponentLink2Description: Datasheet; ComponentLink2URL: http://www.we-online.de/katalog/media/pdf/7440420027.pdf
footprint WE-TPC-4818-M (SMD Inductor, 2-Leads, Body 4.8x4.8x2.0 mm)
pins: 1, 2

## 7440420039
designator L?
SMD Shielded Tiny Power Inductor WE-TPC, L = 3.90 µH; PartNumber: 7440420039; Inductance: 3.90 µH; DatasheetVersion: ver 6, Aug-2010; PackageReference: WE-TPC-4818-M; PackageDescription: SMD Inductor, 2-Leads, Body 4.8 x 4.8 mm; ComponentLink1Description: Manufacturer URL; ComponentLink1URL: http://www.we-online.com; ComponentLink2Description: Datasheet; ComponentLink2URL: http://www.we-online.de/katalog/media/pdf/7440420039.pdf
footprint WE-TPC-4818-M (SMD Inductor, 2-Leads, Body 4.8x4.8x2.0 mm)
pins: 1, 2

## 7440430012
designator L?
SMD Shielded Tiny Power Inductor WE-TPC, L = 1.20 µH; PartNumber: 7440430012; Inductance: 1.20 µH; DatasheetVersion: ver 6, Aug-2010; PackageReference: WE-TPC-4828-MH; PackageDescription: SMD Inductor, 2-Leads, Body 4.8 x 4.8 mm; ComponentLink1Description: Manufacturer URL; ComponentLink1URL: http://www.we-online.com; ComponentLink2Description: Datasheet; ComponentLink2URL: http://www.we-online.de/katalog/media/pdf/7440430012.pdf
footprint WE-TPC-4828-MH (SMD Inductor, 2-Leads, Body 4.8x4.8x3.0 mm)
pins: 1, 2

## 7440430018
designator L?
SMD Shielded Tiny Power Inductor WE-TPC, L = 1.80 µH; PartNumber: 7440430018; Inductance: 1.80 µH; DatasheetVersion: ver 6, Aug-2010; PackageReference: WE-TPC-4828-MH; PackageDescription: SMD Inductor, 2-Leads, Body 4.8 x 4.8 mm; ComponentLink1Description: Manufacturer URL; ComponentLink1URL: http://www.we-online.com; ComponentLink2Description: Datasheet; ComponentLink2URL: http://www.we-online.de/katalog/media/pdf/7440430018.pdf
footprint WE-TPC-4828-MH (SMD Inductor, 2-Leads, Body 4.8x4.8x3.0 mm)
pins: 1, 2

## 7440430022
designator L?
SMD Shielded Tiny Power Inductor WE-TPC, L = 2.20 µH; PartNumber: 7440430022; Inductance: 2.20 µH; DatasheetVersion: ver 6, Aug-2010; PackageReference: WE-TPC-4828-MH; PackageDescription: SMD Inductor, 2-Leads, Body 4.8 x 4.8 mm; ComponentLink1Description: Manufacturer URL; ComponentLink1URL: http://www.we-online.com; ComponentLink2Description: Datasheet; ComponentLink2URL: http://www.we-online.de/katalog/media/pdf/7440430022.pdf
footprint WE-TPC-4828-MH (SMD Inductor, 2-Leads, Body 4.8x4.8x3.0 mm)
pins: 1, 2

## 7440430027
designator L?
SMD Shielded Tiny Power Inductor WE-TPC, L = 2.70 µH; PartNumber: 7440430027; Inductance: 2.70 µH; DatasheetVersion: ver 6, Aug-2010; PackageReference: WE-TPC-4828-MH; PackageDescription: SMD Inductor, 2-Leads, Body 4.8 x 4.8 mm; ComponentLink1Description: Manufacturer URL; ComponentLink1URL: http://www.we-online.com; ComponentLink2Description: Datasheet; ComponentLink2URL: http://www.we-online.de/katalog/media/pdf/7440430027.pdf
footprint WE-TPC-4828-MH (SMD Inductor, 2-Leads, Body 4.8x4.8x3.0 mm)
pins: 1, 2

## 7440430039
designator L?
SMD Shielded Tiny Power Inductor WE-TPC, L = 3.90 µH; PartNumber: 7440430039; Inductance: 3.90 µH; DatasheetVersion: ver 6, Aug-2010; PackageReference: WE-TPC-4828-MH; PackageDescription: SMD Inductor, 2-Leads, Body 4.8 x 4.8 mm; ComponentLink1Description: Manufacturer URL; ComponentLink1URL: http://www.we-online.com; ComponentLink2Description: Datasheet; ComponentLink2URL: http://www.we-online.de/katalog/media/pdf/7440430039.pdf
footprint WE-TPC-4828-MH (SMD Inductor, 2-Leads, Body 4.8x4.8x3.0 mm)
pins: 1, 2

## 7440520012
designator L?
SMD Shielded Tiny Power Inductor WE-TPC, L = 1.20 µH; PartNumber: 7440520012; Inductance: 1.20 µH; DatasheetVersion: ver 7, Aug-2010; PackageReference: WE-TPC-5818-L; PackageDescription: SMD Inductor, 2-Leads, Body 5.8 x 5.8 mm; ComponentLink1Description: Manufacturer URL; ComponentLink1URL: http://www.we-online.com; ComponentLink2Description: Datasheet; ComponentLink2URL: http://www.we-online.de/katalog/media/pdf/7440520012.pdf
footprint WE-TPC-5818-L (SMD Inductor, 2-Leads, Body 5.8x5.8x2.0 mm)
pins: 1, 2

## 7440520018
designator L?
SMD Shielded Tiny Power Inductor WE-TPC, L = 1.80 µH; PartNumber: 7440520018; Inductance: 1.80 µH; DatasheetVersion: ver 7, Aug-2010; PackageReference: WE-TPC-5818-L; PackageDescription: SMD Inductor, 2-Leads, Body 5.8 x 5.8 mm; ComponentLink1Description: Manufacturer URL; ComponentLink1URL: http://www.we-online.com; ComponentLink2Description: Datasheet; ComponentLink2URL: http://www.we-online.de/katalog/media/pdf/7440520018.pdf
footprint WE-TPC-5818-L (SMD Inductor, 2-Leads, Body 5.8x5.8x2.0 mm)
pins: 1, 2

## 7440520039
designator L?
SMD Shielded Tiny Power Inductor WE-TPC, L = 3.90 µH; PartNumber: 7440520039; Inductance: 3.90 µH; DatasheetVersion: ver 7, Aug-2010; PackageReference: WE-TPC-5818-L; PackageDescription: SMD Inductor, 2-Leads, Body 5.8 x 5.8 mm; ComponentLink1Description: Manufacturer URL; ComponentLink1URL: http://www.we-online.com; ComponentLink2Description: Datasheet; ComponentLink2URL: http://www.we-online.de/katalog/media/pdf/7440520039.pdf
footprint WE-TPC-5818-L (SMD Inductor, 2-Leads, Body 5.8x5.8x2.0 mm)
pins: 1, 2

## 7440530047
designator L?
SMD Shielded Tiny Power Inductor WE-TPC, L = 4.70 µH; PartNumber: 7440530047; Inductance: 4.70 µH; DatasheetVersion: ver 6, Aug-2010; PackageReference: WE-TPC-5828-LH; PackageDescription: SMD Inductor, 2-Leads, Body 5.8 x 5.8 mm; ComponentLink1Description: Manufacturer URL; ComponentLink1URL: http://www.we-online.com; ComponentLink2Description: Datasheet; ComponentLink2URL: http://www.we-online.de/katalog/media/pdf/7440530047.pdf
footprint WE-TPC-5828-LH (SMD Inductor, 2-Leads, Body 5.8x5.8x3.0 mm)
pins: 1, 2

## 7440620015
designator L?
SMD Shielded Tiny Power Inductor WE-TPC, L = 1.50 µH; PartNumber: 7440620015; Inductance: 1.50 µH; DatasheetVersion: ver 5, Jan-2009; PackageReference: WE-TPC-6823-X; PackageDescription: SMD Inductor, 2-Leads, Body 6.8 x 6.8 mm; ComponentLink1Description: Manufacturer URL; ComponentLink1URL: http://www.we-online.com; ComponentLink2Description: Datasheet; ComponentLink2URL: http://www.we-online.de/katalog/media/pdf/7440620015.pdf
footprint WE-TPC-6823-X (SMD Inductor, 2-Leads, Body 6.8x6.8x2.5 mm)
pins: 1, 2

## 7440650015
designator L?
SMD Shielded Tiny Power Inductor WE-TPC, L = 1.50 µH; PartNumber: 7440650015; Inductance: 1.50 µH; DatasheetVersion: ver3, Nov-2008; PackageReference: WE-TPC-1028-XL; PackageDescription: SMD Inductor, 2-Leads, Body 10.0 x 10.0 mm; ComponentLink1Description: Manufacturer URL; ComponentLink1URL: http://www.we-online.com; ComponentLink2Description: Datasheet; ComponentLink2URL: http://www.we-online.de/katalog/media/pdf/7440650015.pdf
footprint WE-TPC-1028-XL (SMD Inductor, 2-Leads, Body 10.0x10.0x3.1 mm)
pins: 1, 2

## 7440650022
designator L?
SMD Shielded Tiny Power Inductor WE-TPC, L = 2.20 µH; PartNumber: 7440650022; Inductance: 2.20 µH; DatasheetVersion: ver 3, Nov-2008; PackageReference: WE-TPC-1028-XL; PackageDescription: SMD Inductor, 2-Leads, Body 10.0 x 10.0 mm; ComponentLink1Description: Manufacturer URL; ComponentLink1URL: http://www.we-online.com; ComponentLink2Description: Datasheet; ComponentLink2URL: http://www.we-online.de/katalog/media/pdf/7440650022.pdf
footprint WE-TPC-1028-XL (SMD Inductor, 2-Leads, Body 10.0x10.0x3.1 mm)
pins: 1, 2

## 7440650033
designator L?
SMD Shielded Tiny Power Inductor WE-TPC, L = 3.30 µH; PartNumber: 7440650033; Inductance: 3.30 µH; DatasheetVersion: ver 3, Nov-2008; PackageReference: WE-TPC-1028-XL; PackageDescription: SMD Inductor, 2-Leads, Body 10.0 x 10.0 mm; ComponentLink1Description: Manufacturer URL; ComponentLink1URL: http://www.we-online.com; ComponentLink2Description: Datasheet; ComponentLink2URL: http://www.we-online.de/katalog/media/pdf/7440650033.pdf
footprint WE-TPC-1028-XL (SMD Inductor, 2-Leads, Body 10.0x10.0x3.1 mm)
pins: 1, 2

## 7440650047
designator L?
SMD Shielded Tiny Power Inductor WE-TPC, L = 4.70 µH; PartNumber: 7440650047; Inductance: 4.70 µH; DatasheetVersion: ver 3, Nov-2008; PackageReference: WE-TPC-1028-XL; PackageDescription: SMD Inductor, 2-Leads, Body 10.0 x 10.0 mm; ComponentLink1Description: Manufacturer URL; ComponentLink1URL: http://www.we-online.com; ComponentLink2Description: Datasheet; ComponentLink2URL: http://www.we-online.de/katalog/media/pdf/7440650047.pdf
footprint WE-TPC-1028-XL (SMD Inductor, 2-Leads, Body 10.0x10.0x3.1 mm)
pins: 1, 2

## 7440650068
designator L?
SMD Shielded Tiny Power Inductor WE-TPC, L = 6.80 µH; PartNumber: 7440650068; Inductance: 6.80 µH; DatasheetVersion: ver 3, Nov-2008; PackageReference: WE-TPC-1028-XL; PackageDescription: SMD Inductor, 2-Leads, Body 10.0 x 10.0 mm; ComponentLink1Description: Manufacturer URL; ComponentLink1URL: http://www.we-online.com; ComponentLink2Description: Datasheet; ComponentLink2URL: http://www.we-online.de/katalog/media/pdf/7440650068.pdf
footprint WE-TPC-1028-XL (SMD Inductor, 2-Leads, Body 10.0x10.0x3.1 mm)
pins: 1, 2

## 7440650082
designator L?
SMD Shielded Tiny Power Inductor WE-TPC, L = 8.20 µH; PartNumber: 7440650082; Inductance: 8.20 µH; DatasheetVersion: ver 3, Nov-2008; PackageReference: WE-TPC-1028-XL; PackageDescription: SMD Inductor, 2-Leads, Body 10.0 x 10.0 mm; ComponentLink1Description: Manufacturer URL; ComponentLink1URL: http://www.we-online.com; ComponentLink2Description: Datasheet; ComponentLink2URL: http://www.we-online.de/katalog/media/pdf/7440650082.pdf
footprint WE-TPC-1028-XL (SMD Inductor, 2-Leads, Body 10.0x10.0x3.1 mm)
pins: 1, 2